# Altium schematic symbol library schlib.SchLib: 11 symbols
Pins are listed as number, name and electrical type; pins without a type are passive.

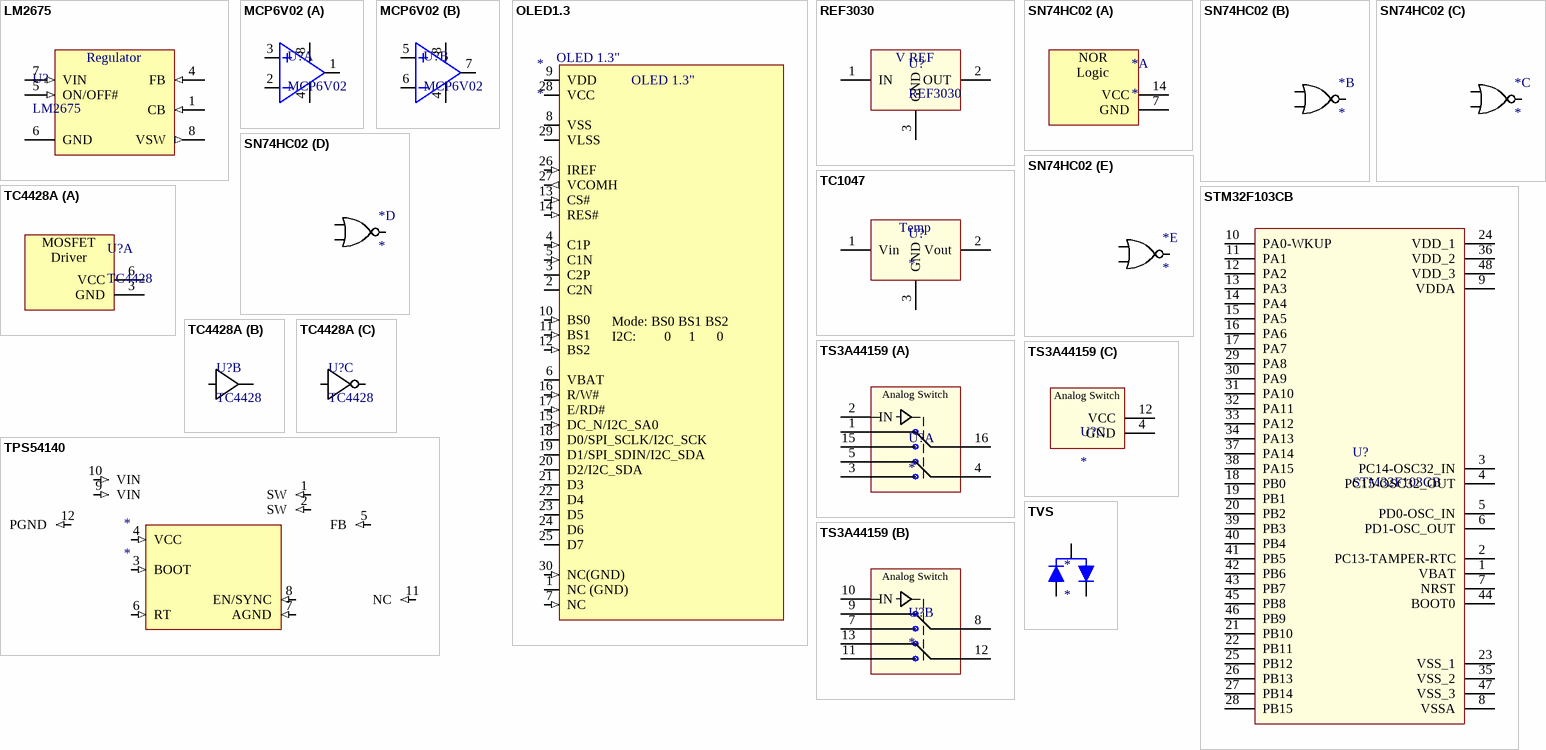
[diagram p0: symbols LM2675 to TVS]

## LM2675
designator U?
pins: 1 CB (in), 4 FB (in), 5 ON/OFF# (in), 6 GND, 7 VIN (in), 8 VSW (out)
text: Regulator

## MCP6V02
designator U?
part A pins: 1 Vouta, 2 Vina-, 3 Vina+, 4 Vss, 8 Vdd
part B pins: 4 Vss, 5 Vinb+, 6 Vinb-, 7 Voutb, 8 Vdd

## OLED1.3
designator *
pins: 1 NC (GND), 2 C2N, 3 C2P, 4 C1P (in), 5 C1N (in), 6 VBAT (power), 7 NC (in), 8 VSS (power), 9 VDD (power), 10 BS0 (in), 11 BS1 (in), 12 BS2 (in), 13 CS# (in), 14 RES# (in), 15 DC_N/I2C_SA0 (in), 16 R/W# (in), 17 E/RD# (in), 18 D0/SPI_SCLK/I2C_SCK (io), 19 D1/SPI_SDIN/I2C_SDA (io), 20 D2/I2C_SDA (io), 21 D3 (io), 22 D4 (io), 23 D5 (io), 24 D6 (io), 25 D7 (io), 26 IREF (in), 27 VCOMH (out), 28 VCC (power), 29 VLSS (power), 30 NC(GND) (in)
text: OLED 1.3"; Mode: BS0 BS1 BS2 / I2C:        0     1      0

## REF3030
designator U?
footprint REF3030 (SOT23, 3-Leads, Body 2,92x2,45mm, Pitch 0,95mm, IPC Medium Density)
pins: 1 IN, 2 OUT, 3 GND
text: V REF

## SN74HC02
designator *
part A pins: 7 GND (power), 14 VCC (power)
part B pins: 1A, 1B, 1Y
part C pins: 2A, 2B, 2Y
part D pins: 3A, 3B, 3Y
part E pins: 4A, 4B, 4Y
part A text: NOR; Logic

## STM32F103CB
designator U?
footprint STM32F103CBT6 (CQFP, 48-Leads, Body 9,00x9,00mm, Pitch 0,50mm, IPC Medium Density)
pins: 1 VBAT, 2 PC13-TAMPER-RTC, 3 PC14-OSC32_IN, 4 PC15-OSC32_OUT, 5 PD0-OSC_IN, 6 PD1-OSC_OUT, 7 NRST, 8 VSSA, 9 VDDA, 10 PA0-WKUP, 11 PA1, 12 PA2, 13 PA3, 14 PA4, 15 PA5, 16 PA6, 17 PA7, 18 PB0, 19 PB1, 20 PB2, 21 PB10, 22 PB11, 23 VSS_1, 24 VDD_1, 25 PB12, 26 PB13, 27 PB14, 28 PB15, 29 PA8, 30 PA9, 31 PA10, 32 PA11, 33 PA12, 34 PA13, 35 VSS_2, 36 VDD_2, 37 PA14, 38 PA15, 39 PB3, 40 PB4, 41 PB5, 42 PB6, 43 PB7, 44 BOOT0, 45 PB8, 46 PB9, 47 VSS_3, 48 VDD_3

## TC1047
designator U?
footprint TC1047 (SOT23, 3-Leads, Body 2,92x2,37mm, Pitch 0,95mm, IPC Medium Density)
pins: 1 Vin, 2 Vout, 3 GND
text: Temp

## TC4428A
designator U?, comment TC4428
part A pins: 3 GND (power), 6 VCC (power)
part B pins: 4 IN_B, 5 OUT_B
part C pins: 2 IN_A, 7 OUT_A#
part A text: MOSFET; Driver

## TPS54140
designator *
pins: 1 SW (in), 2 SW (in), 3 BOOT (in), 4 VCC (in), 5 FB (in), 6 RT (in), 7 AGND (in), 8 EN/SYNC (in), 9 VIN (in), 10 VIN (in), 11 NC (in), 12 PGND (in)

## TS3A44159
designator U?
footprint TS3A44159RGTR (QFN, 16-Leads, Body 3,00x3,00mm, Pitch 0,50mm, Thermal Pad 1,60x1,60mm, IPC Medium Density)
part A pins: 1 NC1, 2 IN, 3 NO2, 4 COM2, 5 NC2, 15 NO1, 16 COM1
part B pins: 7 NO3, 8 COM3, 9 NC3, 10 IN, 11 NO4, 12 COM4, 13 NC4
part C pins: 4 GND, 12 VCC
part A text: Analog Switch
part B text: Analog Switch
part C text: Analog Switch

## TVS
designator *
pins: 1, 2, 3